# Altium footprint library DHT22.PcbLib: 1 footprints
Each footprint in its own frame and in the unit in brackets; x right, y up, seen from the top. Pads: shape width x height; smd on the part's side, far side on the other; paste and mask are expansions set on the pad; w line width, h text height; cw(c..) or ccw(c..) is an arc to the next point about the centre after c.
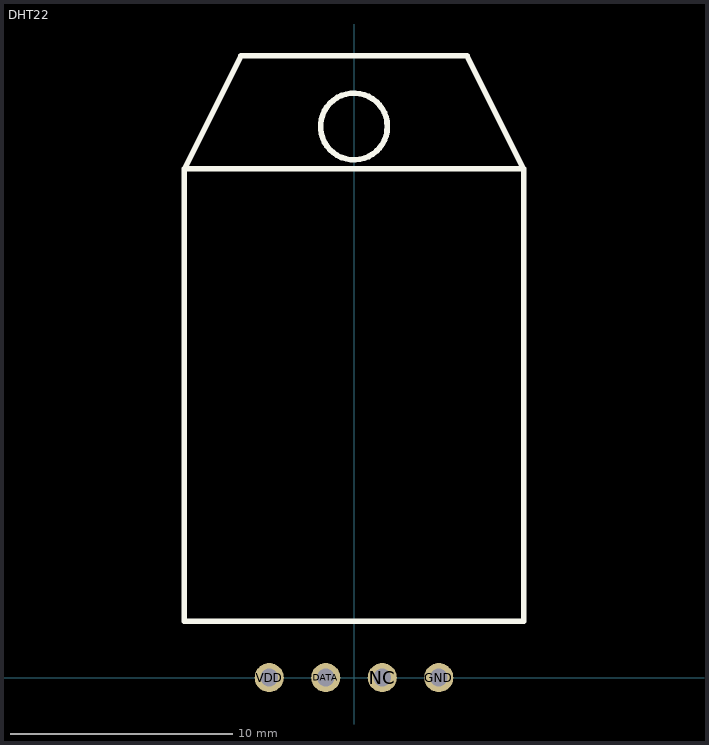
[diagram p0: the footprint, top view; thin cyan lines are the x and y axes]

## DHT22 [mm]
pads (4):
  round 1.308 hole 0.8: DATA(-1.27,0) GND(3.81,0) NC(1.27,0) VDD(-3.81,0)
Top Overlay:
  circle w0.254: c0,24.765 r1.5
  lines w0.254: -7.62,22.86 -5.08,27.94 5.08,27.94 7.62,22.86 ; -7.62,22.86 7.62,22.86 ; -7.62,22.86 -7.62,2.54 0,2.54 7.62,2.54 7.62,22.86
3D body "step_temp.STEP": height 7.7, standoff -4.5, extent -7.55,-0.25 7.55,27.64